# Altium schematic symbol library POE13P.SchLib: 1 symbol
Pins are listed as number, name and electrical type; pins without a type are passive.

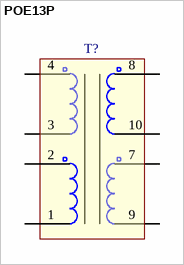
[diagram p0: symbol POE13P]

## POE13P
designator T?  (value not drawn)
pins: 1, 2, 3, 4, 7, 8, 9, 10